# Altium footprint library MY.PcbLib: 177 footprints (part 1 of 12)
Each footprint in its own frame and in the unit in brackets; x right, y up, seen from the top. Pads: shape width x height; smd on the part's side, far side on the other; paste and mask are expansions set on the pad; w line width, h text height; cw(c..) or ccw(c..) is an arc to the next point about the centre after c.
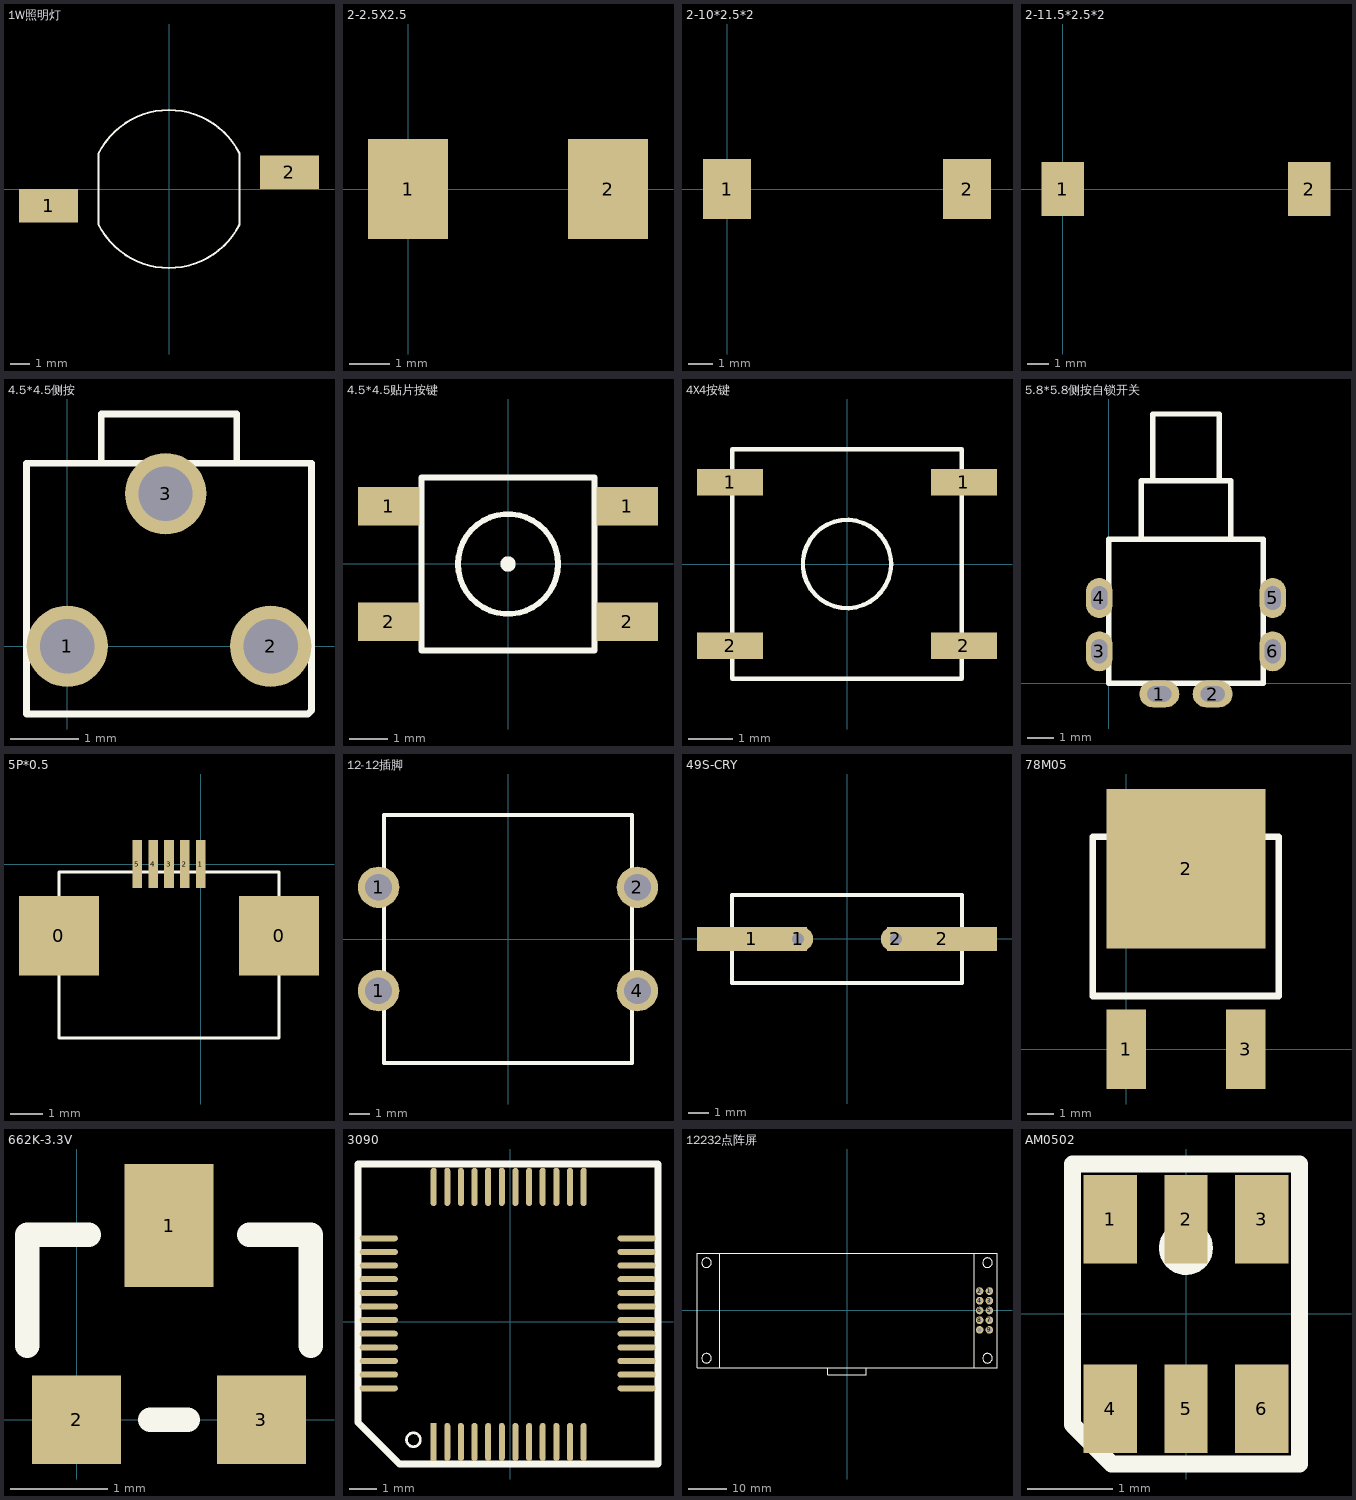
[diagram p0: the footprints below, top view; thin cyan lines are the x and y axes]

## 1W照明灯 [mm]
pads (2):
  rect 3x1.7 smd: 1(-6.1,-0.85) 2(6.1,0.85)
Top Overlay:
  lines w0.1: -3.572,-1.801 ccw(c0,0) 3.567,-1.81 ; -3.572,1.801 cw(c0,0) 3.567,1.81 ; -3.57,-1.8 -3.57,1.8 ; 3.57,-1.8 3.57,1.8

## 2-2.5X2.5 [mm]
pads (2):
  rect 2x2.5 smd: 1(0,0) 2(5,0)

## 2-10*2.5*2 [mm]
pads (2):
  rect 2x2.5 smd: 1(0,0) 2(10,0)

## 2-11.5*2.5*2 [mm]
pads (2):
  rect 2x2.5 smd: 1(0,0) 2(11.5,0)

## 4.5*4.5侧按 [mm]
pads (3):
  round 1.2 / inner round 1.2 / far side round 1.8 hole 0.8: 1(0,0) 2(3,0) 3(1.45,2.25)
Top Overlay:
  lines w0.1: -0.6,-1 3.55,-1 3.6,-0.95 3.6,2.7 -0.6,2.7 -0.6,-1 ; 0.5,2.7 0.5,3.425 2.5,3.425 2.5,2.7 0.5,2.7

## 4.5*4.5贴片按键 [mm]
pads (4):
  rect 1.6x1 smd: 1(-3.101,1.5) 1(3.099,1.5) 2(-3.101,-1.5) 2(3.099,-1.5)
Top Overlay:
  circle w0.2: c0,0 r0.1
  circle w0.15: c0,0 r1.3
  lines w0.15: -2.251,-2.25 2.249,-2.25 2.249,2.25 -2.251,2.25 -2.251,-2.25

## 4X4按键 [mm]
pads (4):
  rect 1.5x0.6 smd: 1(-2.65,1.85) 1(2.65,1.85) 2(-2.65,-1.85) 2(2.65,-1.85)
Top Overlay:
  circle w0.1: c0,0 r1
  lines w0.1: -2.6,-2.6 -2.6,2.6 2.6,2.6 2.6,-2.6 -2.6,-2.6

## 5.8*5.8侧按自锁开关 [mm]
pads (6):
  oval 1.5x1 hole 0.6 slot 0.9 at 0 deg: 1(1.9,-0.4) 2(3.9,-0.4)
  oval 1x1.5 hole 0.6 slot 0.9 at 90 deg: 3(-0.35,1.2) 4(-0.35,3.2) 5(6.15,3.2) 6(6.15,1.2)
Top Overlay:
  lines w0.2: 1.225,5.4 1.225,7.6 4.575,7.6 4.575,5.4 ; 1.65,7.6 1.65,10.1 4.15,10.1 4.15,7.6 ; 0,0 0,5.4 5.8,5.4 5.8,0 0,0

## 5P*0.5 [mm]
pads (7):
  rect 2.5x2.5 smd: 0(-4.45,-2.25) 0(2.45,-2.25)
  rect 0.3x1.5 smd: 1(0,0) 2(-0.5,0) 3(-1,0) 4(-1.5,0) 5(-2,0)
Top Overlay:
  lines w0.1: -4.45,-5.45 -4.45,-0.25 2.45,-0.25 2.45,-5.45 -4.45,-5.45

## 12-12插脚 [mm]
pads (4):
  round 2 hole 1.3: 1(-6.25,-2.5) 1(-6.25,2.5) 2(6.25,2.5) 4(6.25,-2.5)
Top Overlay:
  lines w0.2: -6,-6 6,-6 6,6 -6,6 -6,-6

## 49S-CRY [mm]
pads (4):
  rect 5.5x1.2 smd: 1(-4.75,0) 2(4.75,0)
  oval 1.5x1.2 hole 0.6: 1(-2.44,0) 2(2.44,0)
Top Overlay:
  lines w0.2: -5.75,-2.2 -5.75,2.2 5.75,2.2 5.75,-2.2 -5.75,-2.2

## 78M05 [mm]
pads (3):
  rect 1.5x3 smd: 1(0,0) 3(4.5,0)
  rect 6x6 smd: 2(2.25,6.794)
Top Overlay:
  lines w0.254: 5.739,8 -1.26,8 -1.26,2 5.74,2 5.74,8

## 662K-3.3V [mm]
pads (3):
  rect 0.914x1.27 smd: 1(0.953,2)
  rect 0.914x0.914 smd: 2(0,0) 3(1.905,0)
Top Overlay:
  lines w0.254: -0.508,0.762 -0.508,1.905 0.127,1.905 ; 0.762,0 1.143,0 ; 1.778,1.905 2.413,1.905 2.413,0.762

## 3090 [mm]
pads (48):
  rect 0.22x1.4 smd: 1(-2.815,-4.4)
  oval 0.22x1.4 smd: 2(-2.315,-4.4) 3(-1.815,-4.4) 4(-1.315,-4.4) 5(-0.815,-4.4) 6(-0.315,-4.4) 7(0.185,-4.4) 8(0.685,-4.4) 9(1.185,-4.4) 10(1.685,-4.4) 11(2.185,-4.4) 12(2.685,-4.4) 25(2.685,4.953) 26(2.185,4.953) 27(1.685,4.953) 28(1.185,4.953) 29(0.685,4.953) 30(0.185,4.953) 31(-0.315,4.953) 32(-0.815,4.953) 33(-1.315,4.953) 34(-1.815,4.953) 35(-2.315,4.953) 36(-2.815,4.953)
  oval 1.4x0.22 smd: 13(4.628,-2.431) 14(4.628,-1.931) 15(4.628,-1.431) 16(4.628,-0.931) 17(4.628,-0.431) 18(4.628,0.069) 19(4.628,0.569) 20(4.628,1.069) 21(4.628,1.569) 22(4.628,2.069) 23(4.628,2.569) 24(4.628,3.069) 37(-4.826,3.069) 38(-4.826,2.569) 39(-4.826,2.069) 40(-4.826,1.569) 41(-4.826,1.069) 42(-4.826,0.569) 43(-4.826,0.069) 44(-4.826,-0.431) 45(-4.826,-0.931) 46(-4.826,-1.431) 47(-4.826,-1.931) 48(-4.826,-2.431)
Top Overlay:
  circle w0.1: c-3.556,-4.318 r0.254
  lines w0.254: -5.588,-3.683 -4.064,-5.207 5.412,-5.207 5.412,5.793 -5.588,5.793 -5.588,-3.683

## 12232点阵屏 [mm]
pads (10):
  round 2 hole 1: 1(37.25,5.08) 2(34.71,5.08) 3(37.25,2.54) 4(34.71,2.54) 5(37.25,0) 6(34.71,0) 7(37.25,-2.54) 8(34.71,-2.54) 9(37.25,-5.08) 10(34.71,-5.08)
Top Overlay:
  circle w0.2: c-36.75,12.5 r1.25
  circle w0.2: c-36.75,-12.5 r1.25
  circle w0.2: c36.75,-12.5 r1.25
  circle w0.2: c36.75,12.5 r1.25
  lines w0.2: -33.25,-15 -33.25,15 ; -5,-15 -5,-16.85 5,-16.85 5,-15 ; 33.25,-15 33.25,15 ; -39.25,-15 39.25,-15 39.25,15 -39.25,15 -39.25,-15

## AM0502 [mm]
pads (6):
  rect 0.622x1.032 smd: 1(-0.884,1.104) 3(0.884,1.104) 4(-0.884,-1.104) 6(0.884,-1.104)
  rect 0.5x1.032 smd: 2(0,1.104) 5(0,-1.104)
Top Overlay:
  circle w0.15: c0,0.77 r0.24
  lines w0.2: -1.325,-1.291 -1.325,1.75 1.325,1.75 1.325,-1.75 -0.866,-1.75 -1.325,-1.291